# EAGLE library part 685119248223 (library USB_c_conn)
WR-COM Angled SMT Micro HDMI,Receptacle Hybird Mount consist of Vertical and Horizontal Type shell tabs=>Code : Con_I-O_COM_Micro-HDMI_685119248223 <http://katalog.we-online.de/media/images/eican/Con_I-O_COM_Micro-HDMI_685119248223_pf2.jpg> Details see: http://katalog.we-online.de/en/em/COM_MICRO_SMT_HORIZONTAL_HYBRID_MOUNT/685119248223 Created 2014-07-09, Karrer Zheng 2014 (C) Würth Elektronik
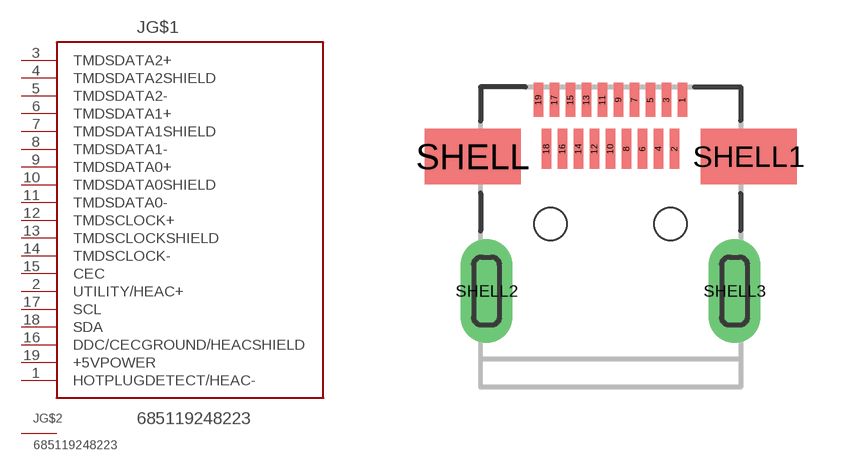
[diagram p77: symbol with the pads of 685119248223; footprint 685119248223]

Designator prefix J; gates G$1=HDMI_TYPD G$2=SHIELD

## 685119248223  [685119248223]
1  G$1:HOTPLUGDETECT/HEAC-
2  G$1:UTILITY/HEAC+
3  G$1:TMDSDATA2+
4  G$1:TMDSDATA2SHIELD
5  G$1:TMDSDATA2-
6  G$1:TMDSDATA1+
7  G$1:TMDSDATA1SHIELD
8  G$1:TMDSDATA1-
9  G$1:TMDSDATA0+
10  G$1:TMDSDATA0SHIELD
11  G$1:TMDSDATA0-
12  G$1:TMDSCLOCK+
13  G$1:TMDSCLOCKSHIELD
14  G$1:TMDSCLOCK-
15  G$1:CEC
16  G$1:DDC/CECGROUND/HEACSHIELD
17  G$1:SCL
18  G$1:SDA
19  G$1:+5VPOWER
SHELL  G$2:SHIELD  pas
SHELL1  G$2:SHIELD  pas
SHELL2  G$2:SHIELD  pas
SHELL3  G$2:SHIELD  pas

## Footprint 685119248223 (pad centres in mm)
smd 0.23 x 0.85: 1 1.8,3.095; 3 1.4,3.095; 5 1,3.095; 7 0.6,3.095; 9 0.2,3.095; 11 -0.2,3.095; 13 -0.6,3.095; 15 -1,3.095; 17 -1.4,3.095; 19 -1.8,3.095
smd 0.23 x 1: 2 1.6,1.87; 4 1.2,1.87; 6 0.8,1.87; 8 0.4,1.87; 10 0,1.87; 12 -0.4,1.87; 14 -0.8,1.87; 16 -1.2,1.87; 18 -1.6,1.87
smd 2.4 x 1.38: SHELL -3.45,1.68; SHELL1 3.45,1.68
drill 0.65 pad 1.3 long: SHELL2 -3.1,-1.68; SHELL3 3.1,-1.68
hole 0.81 at 1.5,0
hole 0.81 at -1.5,0